# EAGLE library part 20SEG_LEDBARGRAPH (library PP_LED)
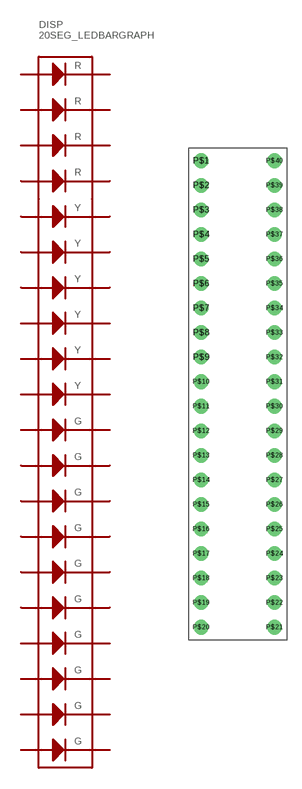
[diagram p2: symbol with the pads of 20SEG_LEDBARGRAPH; footprint 20SEG_LEDBARGRAPH]

Designator prefix DISP

## 20SEG_LEDBARGRAPH  [20SEG_LEDBARGRAPH]
P$1  ANODE1
P$2  ANODE2
P$3  ANODE3
P$4  ANODE4
P$5  ANODE5
P$6  ANODE6
P$7  ANODE7
P$8  ANODE8
P$9  ANODE9
P$10  ANODE10
P$11  ANODE11
P$12  ANODE12
P$13  ANODE13
P$14  ANODE14
P$15  ANODE15
P$16  ANODE16
P$17  ANODE17
P$18  ANODE18
P$19  ANODE19
P$20  ANODE20
P$21  CATHODE20
P$22  CATHODE19
P$23  CATHODE18
P$24  CATHODE17
P$25  CATHODE16
P$26  CATHODE15
P$27  CATHODE14
P$28  CATHODE13
P$29  CATHODE12
P$30  CATHODE11
P$31  CATHODE10
P$32  CATHODE9
P$33  CATHODE8
P$34  CATHODE7
P$35  CATHODE6
P$36  CATHODE5
P$37  CATHODE4
P$38  CATHODE3
P$39  CATHODE2
P$40  CATHODE1

## Footprint 20SEG_LEDBARGRAPH (pad centres in mm)
drill 1: P$1 -3.8,24.13; P$2 -3.8,21.59; P$3 -3.8,19.05; P$4 -3.8,16.51; P$5 -3.8,13.97; P$6 -3.8,11.43; P$7 -3.8,8.89; P$8 -3.8,6.35; P$9 -3.8,3.81; P$10 -3.8,1.27; P$11 -3.8,-1.27; P$12 -3.8,-3.81; P$13 -3.8,-6.35; P$14 -3.8,-8.89; P$15 -3.8,-11.43; P$16 -3.8,-13.97; P$17 -3.8,-16.51; P$18 -3.8,-19.05; P$19 -3.8,-21.59; P$20 -3.8,-24.13; P$21 3.8,-24.13; P$22 3.8,-21.59; P$23 3.8,-19.05; P$24 3.8,-16.51; P$25 3.8,-13.97; P$26 3.8,-11.43; P$27 3.8,-8.89; P$28 3.8,-6.35; P$29 3.8,-3.81; P$30 3.8,-1.27; P$31 3.8,1.27; P$32 3.8,3.81; P$33 3.8,6.35; P$34 3.8,8.89; P$35 3.8,11.43; P$36 3.8,13.97; P$37 3.8,16.51; P$38 3.8,19.05; P$39 3.8,21.59; P$40 3.8,24.13